# EAGLE library part 5-7VA (library trafo-amveco)
5 and 7 VA toroidal PC-mount transformer
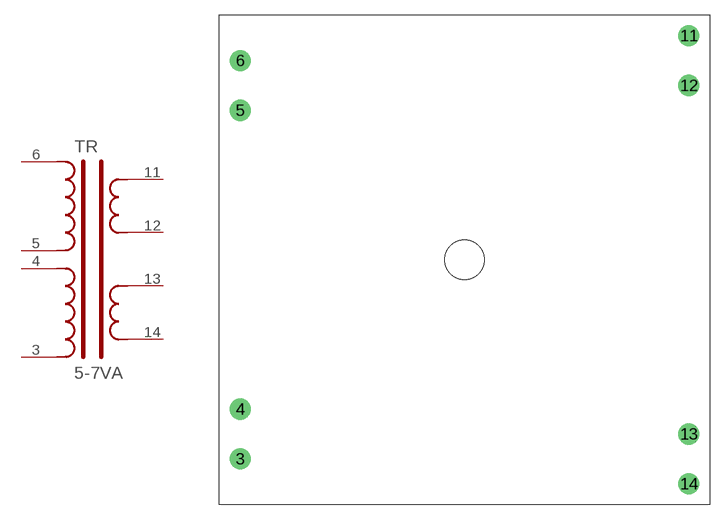
[diagram p3: symbol with the pads of 5_7VA-PC; footprint 5_7VA-PC]

Designator prefix TR

## 5-7VA  [5_7VA-PC]
3  3  pas
4  4  pas
5  5  pas
6  6  pas
11  11  pas
12  12  pas
13  13  pas
14  14  pas

## Footprint 5_7VA-PC (pad centres in mm)
AMVECO (a.k.a Talema) 5 VA and 7 VA PC-mount encapsulated toroidal transformer
drill 1.143 pad 2.159 round: 3 -22.86,-20.32; 4 -22.86,-15.24; 5 -22.86,15.24; 6 -22.86,20.32; 11 22.86,22.86; 12 22.86,17.78; 13 22.86,-17.78; 14 22.86,-22.86
hole 4.064 at 0,0